# Altium schematic symbol library Diodes.SchLib: 19 symbols (part 2 of 2)
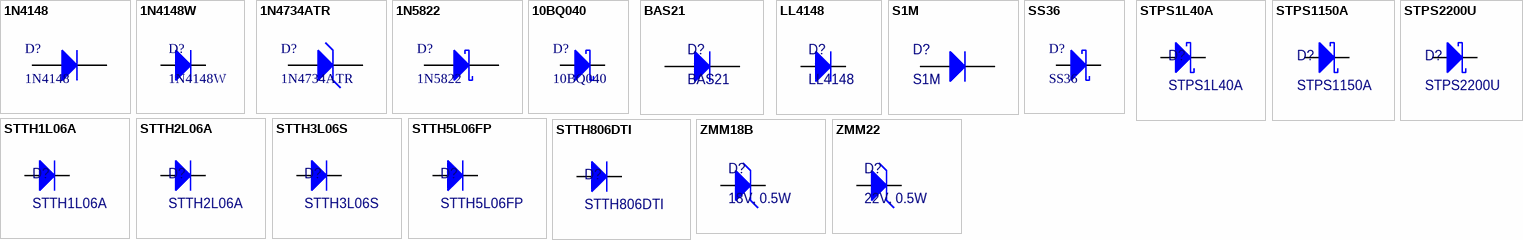
[diagram p1: symbols 1N4148 to ZMM22]

## STTH5L06FP
designator D?
DIODE STANDARD 600V 5A TO220FPAC; Manufacturer: STMicroelectronics; Element Configuration: Single; Forward Voltage: 1.05V; Max Forward Surge Current (Ifsm): 90A; Max Junction Temperature (Tj): 175°C; Number of Elements: 1; Peak Non-Repetitive Surge Current: 60A; Peak Reverse Current: 5µA; Recovery Time: 95ns; Supplier: DigiKey; Supplier Part Number: 497-3747-5-ND; Manufacturer Part Number: STTH5L06FP; RoHS: Compliant; Category: Rectifier Diodes; Stock: 2031; Pricing: 1=0.34, 50=0.335, 100=0.3186, 500=0.29682 (USD); Average Rectified Current: 5A; Case/Package: TO-220-2; China RoHS: Non-Compliant; Current Rating: 5A; Forward Current: 5A; Height: 9.3mm; Lead Free: Lead Free; Length: 10.4mm; Lifecycle Status: Production; Max Operating Temperature: 175°C; Max Output current: 5A; Max Repetitive Reverse Voltage (Vrrm): 600V; Max Reverse Voltage (DC): 600V; Max Surge Current: 90A; Min Operating Temperature: -65°C; Mounting Technology: Through Hole; Pins: 2; Number of Terminals: 2; Output Current: 5A; Polarity: Standard; Radiation Hardening: No; REACH SVHC: No; Reverse Recovery Time: 95ns; Reverse Standoff Voltage: 600V; Reverse Voltage: 600V; Schedule B: 8541100080, 8541100080|8541100080|8541100080|8541100080|8541100080; Voltage Rating (DC): 600V; Width: 4.6mm; ComponentLink1URL: https://datasheet.octopart.com:443/STTH5L06FP-STMicroelectronics-datasheet-62337470.pdf?src-supplier=Newark; ComponentLink1Description: https://datasheet.octopart.com:443/STTH5L06FP-STMicroelectronics-datasheet-62337470.pdf?src-supplier=Newark; ComponentLink2URL: https://datasheet.octopart.com:443/STTH5L06FP-STMicroelectronics-datasheet-22151371.pdf?src-supplier=Newark; ComponentLink2Description: https://datasheet.octopart.com:443/STTH5L06FP-STMicroelectronics-datasheet-22151371.pdf?src-supplier=Newark; ComponentLink3URL: https://datasheet.octopart.com:443/STTH5L06FP-STMicroelectronics-datasheet-10405362.pdf?src-supplier=element14+APAC; ComponentLink3Description: https://datasheet.octopart.com:443/STTH5L06FP-STMicroelectronics-datasheet-10405362.pdf?src-supplier=element14+APAC; ComponentLink4URL: https://datasheet.octopart.com:443/STTH5L06FP-STMicroelectronics-datasheet-37697797.pdf?src-supplier=element14+APAC; ComponentLink4Description: https://datasheet.octopart.com:443/STTH5L06FP-STMicroelectronics-datasheet-37697797.pdf?src-supplier=element14+APAC; ComponentLink5URL: https://datasheet.octopart.com:443/STTH5L06FP-STMicroelectronics-datasheet-38495.pdf?src-supplier=Farnell; ComponentLink5Description: https://datasheet.octopart.com:443/STTH5L06FP-STMicroelectronics-datasheet-38495.pdf?src-supplier=Farnell; ComponentLink6URL: https://datasheet.octopart.com:443/STTH5L06FP-STMicroelectronics-datasheet-94103476.pdf?src-supplier=TME; ComponentLink6Description: https://datasheet.octopart.com:443/STTH5L06FP-STMicroelectronics-datasheet-94103476.pdf?src-supplier=TME; ComponentLink7URL: https://datasheet.octopart.com:443/STTH5L06FP-STMicroelectronics-datasheet-14053592.pdf?src-supplier=iiiC; ComponentLink7Description: https://datasheet.octopart.com:443/STTH5L06FP-STMicroelectronics-datasheet-14053592.pdf?src-supplier=iiiC; ComponentLink8URL: https://datasheet.octopart.com:443/STTH5L06FP-STMicroelectronics-datasheet-10022717.pdf?src-supplier=RS+(Formerly+Allied+Electronics); ComponentLink8Description: https://datasheet.octopart.com:443/STTH5L06FP-STMicroelectronics-datasheet-10022717.pdf?src-supplier=RS+(Formerly+Allied+Electronics); ComponentLink9URL: https://datasheet.octopart.com:443/STTH5L06FP-STMicroelectronics-datasheet-7623468.pdf?src-supplier=Jameco; ComponentLink9Description: https://datasheet.octopart.com:443/STTH5L06FP-STMicroelectronics-datasheet-7623468.pdf?src-supplier=Jameco
footprint TO-220FPAC
pins: 1 K, 2 A

## STTH806DTI
designator D?
DIODE STD 600V 8A TO220AC INS; Manufacturer: STMicroelectronics; Element Configuration: Single; Forward Voltage: 2.4V; Max Forward Surge Current (Ifsm): 180A; Max Junction Temperature (Tj): 150°C; Number of Elements: 1; Peak Reverse Current: 10µA; Polarity: Standard; Recovery Time: 30ns; Supplier: DigiKey; Supplier Part Number: 497-3250-5-ND; Manufacturer Part Number: STTH806DTI; RoHS: Compliant; Category: Rectifier Diodes; Stock: 1037; Pricing: 1=2.08, 50=0.861, 100=0.8408, 500=0.78042, 1000=0.74288 (USD); Average Rectified Current: 8A; Case/Package: TO-220-2; China RoHS: Non-Compliant; Country of Origin: Mainland China; Current Rating: 8A; Export Control Classification Number (ECCN) Code: EAR99; Forward Current: 8A; Height: 9.3mm; Harmonized Tariff Schedule (HTS) Code: 8541.10.00.80; Introduction Date: 1980-01-04; Lead Free: Lead Free; Length: 10.4mm; Lifecycle Status: Production; Max Operating Temperature: 150°C; Max Output current: 8A; Max Repetitive Reverse Voltage (Vrrm): 600V; Max Reverse Voltage (DC): 600V; Max Surge Current: 180A; Min Operating Temperature: -65°C; Mounting Technology: Through Hole; Pins: 2; Number of Terminals: 2; Output Current: 8A; Peak Non-Repetitive Surge Current: 180A; Radiation Hardening: No; REACH SVHC: No; Reverse Recovery Time: 30ns; Reverse Standoff Voltage: 600V; Reverse Voltage: 600V; Voltage Rating (DC): 600V; Width: 4.6mm; ComponentLink1URL: https://datasheet.octopart.com:443/STTH806DTI-STMicroelectronics-datasheet-8805855.pdf?src-supplier=Newark; ComponentLink1Description: https://datasheet.octopart.com:443/STTH806DTI-STMicroelectronics-datasheet-8805855.pdf?src-supplier=Newark; ComponentLink2URL: https://datasheet.octopart.com:443/STTH806DTI-STMicroelectronics-datasheet-33008909.pdf?src-supplier=Farnell; ComponentLink2Description: https://datasheet.octopart.com:443/STTH806DTI-STMicroelectronics-datasheet-33008909.pdf?src-supplier=Farnell; ComponentLink3URL: https://datasheet.octopart.com:443/STTH806DTI-STMicroelectronics-datasheet-148320.pdf?src-supplier=Verical; ComponentLink3Description: https://datasheet.octopart.com:443/STTH806DTI-STMicroelectronics-datasheet-148320.pdf?src-supplier=Verical; ComponentLink4URL: https://datasheet.octopart.com:443/STTH806DTI-STMicroelectronics-datasheet-68141.pdf?src-supplier=Mouser; ComponentLink4Description: https://datasheet.octopart.com:443/STTH806DTI-STMicroelectronics-datasheet-68141.pdf?src-supplier=Mouser; ComponentLink5URL: https://datasheet.octopart.com:443/STTH806DTI-STMicroelectronics-datasheet-14054847.pdf?src-supplier=iiiC; ComponentLink5Description: https://datasheet.octopart.com:443/STTH806DTI-STMicroelectronics-datasheet-14054847.pdf?src-supplier=iiiC
footprint TO-220AC
pins: 1 K, 2 A

## ZMM18B
designator D?, comment 18V, 0.5W
DIODE ZENER 18V 500MW SOD80C; Manufacturer: Diotec; Manufacturer Part Number: ZMM18B; Manufacturer Lifecycle Status: ACTIVE; Body Material: Glass; Impedance: 50Ω; Number of Elements: 1; Peak Reverse Current: 100nA; Polarity: Unidirectional; Reverse Standoff Voltage: 13V; Voltage Tolerance: 2%; Zener Current: 5mA; Supplier: DigiKey; Supplier Part Number: 4878-ZMM18B-ND; RoHS: Compliant; Category: Zener Diodes; Stock: 2500; Pricing: 1=0.18, 10=0.108, 100=0.0823, 500=0.07154, 1000=0.042, 2500=0.04116 (USD); Country of Origin: Mainland China; Export Control Classification Number (ECCN) Code: EAR99; Harmonized Tariff Schedule (HTS) Code: 85411000; Introduction Date: 2005-07-18; Lifecycle Status: Production; Max Operating Temperature: 175°C; Max Power Dissipation: 500mW; Min Operating Temperature: -50°C; Number of Terminals: 2; REACH SVHC: Unknown; Reference Voltage: 18V; Weight: 49mg; ComponentLink1URL: https://datasheet.octopart.com:443/ZMM18B-Diotec-datasheet-168810322.pdf?src-supplier=IHS; ComponentLink1Description: https://datasheet.octopart.com:443/ZMM18B-Diotec-datasheet-168810322.pdf?src-supplier=IHS; ComponentLink2URL: https://datasheet.octopart.com:443/ZMM18B-Diotec-datasheet-20772213.pdf?src-supplier=Component+Distributors+Inc.; ComponentLink2Description: https://datasheet.octopart.com:443/ZMM18B-Diotec-datasheet-20772213.pdf?src-supplier=Component+Distributors+Inc.; ComponentLink3URL: https://datasheet.octopart.com:443/ZMM18B-Diotec-datasheet-113245526.pdf?src-supplier=TME; ComponentLink3Description: https://datasheet.octopart.com:443/ZMM18B-Diotec-datasheet-113245526.pdf?src-supplier=TME; ComponentLink4URL: https://datasheet.octopart.com:443/ZMM18B-Diotec-datasheet-177062540.pdf?src-supplier=Burklin+Elektronik; ComponentLink4Description: https://datasheet.octopart.com:443/ZMM18B-Diotec-datasheet-177062540.pdf?src-supplier=Burklin+Elektronik
footprint SOD-80-DIODE
pins: 1 K, 2 A

## ZMM22
designator D?, comment 22V, 0.5W
DIODE ZENER 22V 500MW SOD80C; Manufacturer: Diotec; Manufacturer Part Number: ZMM22; Manufacturer Lifecycle Status: ACTIVE; Body Material: Glass; Element Configuration: Single; Impedance: 55Ω; Number of Elements: 1; Polarity: Unidirectional; Tolerance: 5%; Zener Current: 5mA; Supplier: DigiKey; Supplier Part Number: 4878-ZMM22CT-ND; RoHS: Compliant; Category: Zener Diodes; Stock: 2199; Pricing: 1=0.12, 10=0.085, 100=0.0657, 500=0.05096, 1000=0.04606 (USD); Case/Package: MELF; Country of Origin: Mainland China; Export Control Classification Number (ECCN) Code: EAR99; Harmonized Tariff Schedule (HTS) Code: 85411000; Introduction Date: 1996-01-06; Lifecycle Status: Production; Max Operating Temperature: 175°C; Max Power Dissipation: 500mW; Min Operating Temperature: -50°C; Mounting Technology: Surface Mount; Pins: 2; Number of Terminals: 2; Power Dissipation: 500mW; REACH SVHC: Unknown; Reference Voltage: 22V; Voltage Tolerance: 5%; Weight: 49mg; Zener Voltage: 22V; ComponentLink1URL: https://datasheet.octopart.com:443/ZMM22-Diotec-datasheet-180727685.pdf?src-supplier=IHS; ComponentLink1Description: https://datasheet.octopart.com:443/ZMM22-Diotec-datasheet-180727685.pdf?src-supplier=IHS; ComponentLink2URL: https://datasheet.octopart.com:443/ZMM22-Diotec-datasheet-166553475.pdf?src-supplier=IHS; ComponentLink2Description: https://datasheet.octopart.com:443/ZMM22-Diotec-datasheet-166553475.pdf?src-supplier=IHS; ComponentLink3URL: https://datasheet.octopart.com:443/ZMM22-Diotec-datasheet-20772212.pdf?src-supplier=Component+Distributors+Inc.; ComponentLink3Description: https://datasheet.octopart.com:443/ZMM22-Diotec-datasheet-20772212.pdf?src-supplier=Component+Distributors+Inc.; ComponentLink4URL: https://datasheet.octopart.com:443/ZMM22-Diotec-datasheet-113245525.pdf?src-supplier=TME; ComponentLink4Description: https://datasheet.octopart.com:443/ZMM22-Diotec-datasheet-113245525.pdf?src-supplier=TME; ComponentLink5URL: https://datasheet.octopart.com:443/ZMM22-Diotec-datasheet-189099733.pdf?src-supplier=Master+Electronics; ComponentLink5Description: https://datasheet.octopart.com:443/ZMM22-Diotec-datasheet-189099733.pdf?src-supplier=Master+Electronics
footprint SOD-80-DIODE
pins: 1 K, 2 A